# Altium integrated library special-drill.IntLib: 8 symbols
Pins are listed as number, name and electrical type; pins without a type are passive.

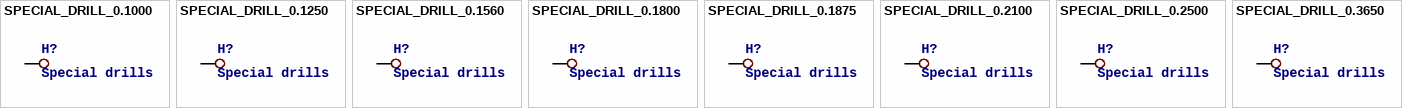
[diagram p0: symbols SPECIAL_DRILL_0.1000 to SPECIAL_DRILL_0.3650]

## SPECIAL_DRILL_0.1000
designator H?, comment Special drills
footprint PAD_0.1000
pins: 1

## SPECIAL_DRILL_0.1250
designator H?, comment Special drills
footprint PAD_0.1250
pins: 1

## SPECIAL_DRILL_0.1560
designator H?, comment Special drills
footprint PAD_0.1560
pins: 1

## SPECIAL_DRILL_0.1800
designator H?, comment Special drills
footprint PAD_0.1800
pins: 1

## SPECIAL_DRILL_0.1875
designator H?, comment Special drills
footprint PAD_0.1875
pins: 1

## SPECIAL_DRILL_0.2100
designator H?, comment Special drills
footprint PAD_0.2100
pins: 1

## SPECIAL_DRILL_0.2500
designator H?, comment Special drills
footprint PAD_0.2500
pins: 1

## SPECIAL_DRILL_0.3650
designator H?, comment Special drills
footprint PAD_0.3650
pins: 1